# EAGLE library part DIVBEE (library divbee)
XPS DivBee http://www.divbee.net/data/divbee.pdf
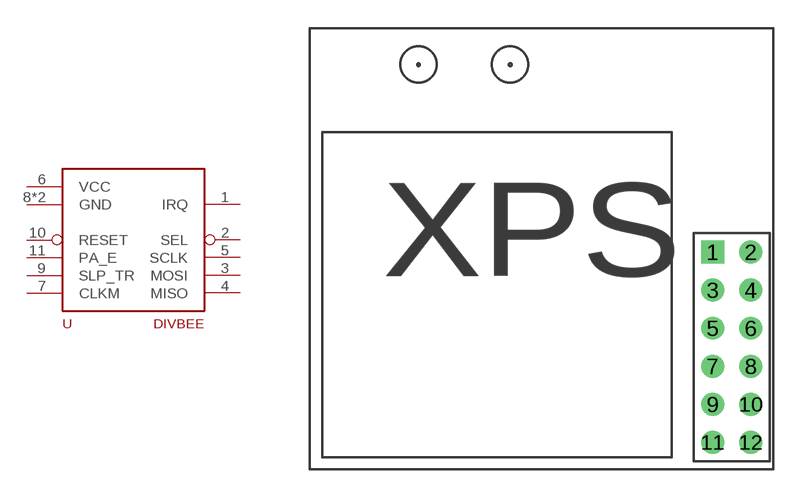
[diagram p0: symbol with the pads of DIVBEE; footprint DIVBEE]

Designator prefix U

## DIVBEE  [DIVBEE]
1  IRQ  in
2  SEL  in
3  MOSI  in
4  MISO  out
5  SCLK  in
6  VCC  pwr
7  CLKM  out
8  GND  pwr
9  SLP_TR  in
10  RESET
11  PA_E  in
12  GND  pwr

## Footprint DIVBEE (pad centres in mm)
drill 0.7 square: 1 21.209,11.455
drill 0.7: 2 23.216,11.455; 3 21.209,9.449; 4 23.216,9.449; 5 21.209,7.442; 6 23.216,7.442; 7 21.209,5.436; 8 23.216,5.436; 9 21.209,3.429; 10 23.216,3.429; 11 21.209,1.422; 12 23.216,1.422